# Altium schematic symbol library R.SchLib: 54 symbols
Pins are listed as number, name and electrical type; pins without a type are passive.

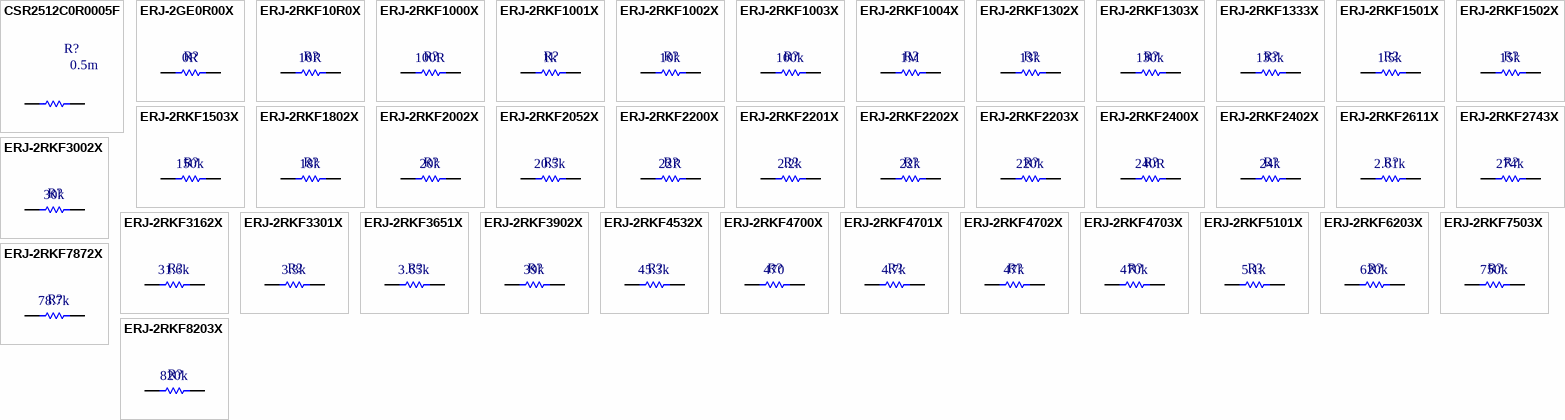
[diagram p0: symbols CSR2512C0R0005F to ERJ-2RKF8203X]

## CSR2512C0R0005F
designator R?, comment 0.5m
RES SMD 0.0005 OHM 1% 3W 2512; Manufacturer: Riedon; Manufacturer Part Number: CSR2512C0R0005F; Temperature Coefficient: ±100ppm/°C; Supplier 1: Digi-Key; Supplier Part Number 1: 696-1183-2-ND; RoHS: RoHS Compliant; Category: Resistors; Stock: 2000; Pricing 1: 2000=0.19817, 6000=0.1937, 10000=0.187, 50000=0.18148 (USD); Packaging: Tape & Reel (TR); Part Status: Active; Tolerance: ±1%; Power (Watts): 3W; Composition: Metal Element; Features: Current Sense; Operating Temperature: -55°C ~ 170°C; Package / Case: 2512 (6432 Metric); Supplier Device Package: 2512; Size / Dimension: 0.250" L x 0.118" W (6.35mm x 3.00mm); Height - Seated (Max): 0.057" (1.45mm); Failure Rate: -; ComponentLink1URL: http://riedon.com/media/pdf/CSR.pdf; ComponentLink1Description: http://riedon.com/media/pdf/CSR.pdf; Supplier 2: Digi-Key; Supplier Part Number 2: 696-1183-1-ND; Pricing 2: 1=0.69, 10=0.574, 25=0.4916, 50=0.4426, 100=0.3852, 250=0.3442, 500=0.27864, 1000=0.22536 (USD)
footprint RES 2512 (VISHAY SHUNT RESISTOR)
pins: 1, 2

## ERJ-2GE0R00X
designator R?  value 0R  (hidden comment: *)
RES 0402 0R
footprint RES 0402 (Chip Capacitor; Body 1.0 x 0.5 mm (LxW typ))
pins: 1, 2

## ERJ-2RKF10R0X
designator R?  value 10R  (hidden comment: *)
RES 0402 10R 1%
footprint RES 0402 (Chip Capacitor; Body 1.0 x 0.5 mm (LxW typ))
pins: 1, 2

## ERJ-2RKF1000X
designator R?  value 100R  (hidden comment: *)
RES 0402 100R 1%
footprint RES 0402 (Body 1.0 x 0.5 mm (LxW typ))
pins: 1, 2

## ERJ-2RKF1001X
designator R?  value 1k  (hidden comment: *)
RES 0402 1k 1%
footprint RES 0402 (Chip Capacitor; Body 1.0 x 0.5 mm (LxW typ))
pins: 1, 2

## ERJ-2RKF1002X
designator R?  value 10k  (hidden comment: *)
RES 0402 10k 1%
footprint RES 0402 (Chip Capacitor; Body 1.0 x 0.5 mm (LxW typ))
pins: 1, 2

## ERJ-2RKF1003X
designator R?  value 100k  (hidden comment: *)
RES 0402 100k 1%
footprint RES 0402 (Chip Capacitor; Body 1.0 x 0.5 mm (LxW typ))
pins: 1, 2

## ERJ-2RKF1004X
designator R?  value 1M  (hidden comment: *)
RES 0402 1M 1%
footprint RES 0402 (Chip Capacitor; Body 1.0 x 0.5 mm (LxW typ))
pins: 1, 2

## ERJ-2RKF1302X
designator R?  value 13k  (hidden comment: *)
RES 0402 13k 1%
footprint RES 0402 (Chip Capacitor; Body 1.0 x 0.5 mm (LxW typ))
pins: 1, 2

## ERJ-2RKF1303X
designator R?  value 130k  (hidden comment: *)
RES 0402 130k 1%
footprint RES 0402 (Chip Capacitor; Body 1.0 x 0.5 mm (LxW typ))
pins: 1, 2

## ERJ-2RKF1333X
designator R?  value 133k  (hidden comment: *)
RES 0402 133k 1%
footprint RES 0402 (Chip Capacitor; Body 1.0 x 0.5 mm (LxW typ))
pins: 1, 2

## ERJ-2RKF1501X
designator R?  value 1.5k  (hidden comment: *)
RES 0402 1.5k 1%
footprint RES 0402 (Chip Capacitor; Body 1.0 x 0.5 mm (LxW typ))
pins: 1, 2

## ERJ-2RKF1502X
designator R?  value 15k  (hidden comment: *)
RES 0402 15k 1%
footprint RES 0402 (Chip Capacitor; Body 1.0 x 0.5 mm (LxW typ))
pins: 1, 2

## ERJ-2RKF1503X
designator R?  value 150k  (hidden comment: *)
RES 0402 150k 1%
footprint RES 0402 (Chip Capacitor; Body 1.0 x 0.5 mm (LxW typ))
pins: 1, 2

## ERJ-2RKF1802X
designator R?  value 18k  (hidden comment: *)
RES 0402 18k 1%
footprint RES 0402 (Chip Capacitor; Body 1.0 x 0.5 mm (LxW typ))
pins: 1, 2

## ERJ-2RKF2002X
designator R?  value 20k  (hidden comment: *)
RES 0402 20k 1%
footprint RES 0402 (Chip Capacitor; Body 1.0 x 0.5 mm (LxW typ))
pins: 1, 2

## ERJ-2RKF2052X
designator R?  value 20.5k  (hidden comment: *)
RES 0402 20.5k 1%
footprint RES 0402 (Chip Capacitor; Body 1.0 x 0.5 mm (LxW typ))
pins: 1, 2

## ERJ-2RKF2200X
designator R?  value 22R  (hidden comment: *)
RES 0402 22R 1%
footprint RES 0402 (Chip Capacitor; Body 1.0 x 0.5 mm (LxW typ))
pins: 1, 2

## ERJ-2RKF2201X
designator R?  value 2.2k  (hidden comment: *)
RES 0402 2.2k 1%
footprint RES 0402 (Chip Capacitor; Body 1.0 x 0.5 mm (LxW typ))
pins: 1, 2

## ERJ-2RKF2202X
designator R?  value 22k  (hidden comment: *)
RES 0402 22k 1%
footprint RES 0402 (Chip Capacitor; Body 1.0 x 0.5 mm (LxW typ))
pins: 1, 2

## ERJ-2RKF2203X
designator R?  value 220k  (hidden comment: *)
RES 0402 220k 1%
footprint RES 0402 (Chip Capacitor; Body 1.0 x 0.5 mm (LxW typ))
pins: 1, 2

## ERJ-2RKF2400X
designator R?  value 240R  (hidden comment: *)
RES 0402 240R 1%
footprint RES 0402 (Body 1.0 x 0.5 mm (LxW typ))
pins: 1, 2

## ERJ-2RKF2402X
designator R?  value 24k  (hidden comment: *)
RES 0402 24k 1%
footprint RES 0402 (Chip Capacitor; Body 1.0 x 0.5 mm (LxW typ))
pins: 1, 2

## ERJ-2RKF2611X
designator R?  value 2.61k  (hidden comment: *)
RES 0402 2.61k 1%
footprint RES 0402 (Chip Capacitor; Body 1.0 x 0.5 mm (LxW typ))
pins: 1, 2

## ERJ-2RKF2743X
designator R?  value 274k  (hidden comment: *)
RES 0402 274k 1%
footprint RES 0402 (Chip Capacitor; Body 1.0 x 0.5 mm (LxW typ))
pins: 1, 2

## ERJ-2RKF3002X
designator R?  value 30k  (hidden comment: *)
RES 0402 30k 1%
footprint RES 0402 (Chip Capacitor; Body 1.0 x 0.5 mm (LxW typ))
pins: 1, 2

## ERJ-2RKF3162X
designator R?  value 31.6k  (hidden comment: *)
RES 0402 31.6k 1%
footprint RES 0402 (Chip Capacitor; Body 1.0 x 0.5 mm (LxW typ))
pins: 1, 2

## ERJ-2RKF3301X
designator R?  value 3.3k  (hidden comment: *)
RES 0402 3.3k 1%
footprint RES 0402 (Chip Capacitor; Body 1.0 x 0.5 mm (LxW typ))
pins: 1, 2

## ERJ-2RKF3651X
designator R?  value 3.65k  (hidden comment: *)
RES 0402 3.65k 1%
footprint RES 0402 (Chip Capacitor; Body 1.0 x 0.5 mm (LxW typ))
pins: 1, 2

## ERJ-2RKF3902X
designator R?  value 39k  (hidden comment: *)
RES 0402 39k 1%
footprint RES 0402 (Chip Capacitor; Body 1.0 x 0.5 mm (LxW typ))
pins: 1, 2

## ERJ-2RKF4532X
designator R?  value 45.3k  (hidden comment: *)
RES 0402 45.3k 1%
footprint RES 0402 (Chip Capacitor; Body 1.0 x 0.5 mm (LxW typ))
pins: 1, 2

## ERJ-2RKF4700X
designator R?  value 470  (hidden comment: *)
RES 0402 470 1%
footprint RES 0402 (Chip Capacitor; Body 1.0 x 0.5 mm (LxW typ))
pins: 1, 2

## ERJ-2RKF4701X
designator R?  value 4.7k  (hidden comment: *)
RES 0402 4.7k 1%
footprint RES 0402 (Chip Capacitor; Body 1.0 x 0.5 mm (LxW typ))
pins: 1, 2

## ERJ-2RKF4702X
designator R?  value 47k  (hidden comment: *)
RES 0402 47k 1%
footprint RES 0402 (Chip Capacitor; Body 1.0 x 0.5 mm (LxW typ))
pins: 1, 2

## ERJ-2RKF4703X
designator R?  value 470k  (hidden comment: *)
RES 0402 470k 1%
footprint RES 0402 (Chip Capacitor; Body 1.0 x 0.5 mm (LxW typ))
pins: 1, 2

## ERJ-2RKF5101X
designator R?  value 5.1k  (hidden comment: *)
RES 0402 5.1k 1%
footprint RES 0402 (Chip Capacitor; Body 1.0 x 0.5 mm (LxW typ))
pins: 1, 2

## ERJ-2RKF6203X
designator R?  value 620k  (hidden comment: *)
RES 0402 620K 1%
footprint RES 0402 (Chip Capacitor; Body 1.0 x 0.5 mm (LxW typ))
pins: 1, 2

## ERJ-2RKF7503X
designator R?  value 750k  (hidden comment: *)
RES 0402 750K 1%
footprint RES 0402 (Chip Capacitor; Body 1.0 x 0.5 mm (LxW typ))
pins: 1, 2

## ERJ-2RKF7872X
designator R?  value 78.7k  (hidden comment: *)
RES 0402 78.7k 1%
footprint RES 0402 (Chip Capacitor; Body 1.0 x 0.5 mm (LxW typ))
pins: 1, 2

## ERJ-2RKF8203X
designator R?  value 820k  (hidden comment: *)
RES 0402 820k 1%
footprint RES 0402 (Chip Capacitor; Body 1.0 x 0.5 mm (LxW typ))
pins: 1, 2

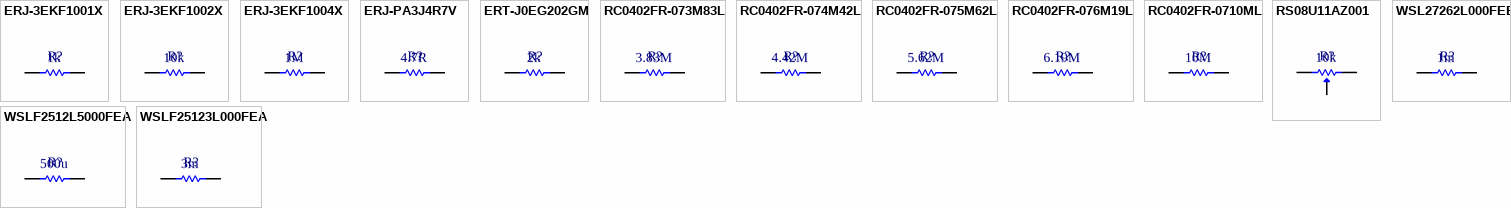
[diagram p1: symbols ERJ-3EKF1001X to WSLF25123L000FEA]

## ERJ-3EKF1001X
designator R?  value 1k  (hidden comment: *)
RES 0603 1k 1%
footprint RES 0603 (Body 1.6 x 0.8 mm (LxW typ))
pins: 1, 2

## ERJ-3EKF1002X
designator R?  value 10k  (hidden comment: *)
RES 0603 10k 1%
footprint RES 0603 (Body 1.6 x 0.8 mm (LxW typ))
pins: 1, 2

## ERJ-3EKF1004X
designator R?  value 1M  (hidden comment: *)
RES 0603 1M 1%
footprint RES 0603 (Body 1.6 x 0.8 mm (LxW typ))
pins: 1, 2

## ERJ-PA3J4R7V
designator R?  value 4.7R  (hidden comment: *)
RES 0603 4.7R 5%
footprint RES 0603 (Body 1.6 x 0.8 mm (LxW typ))
pins: 1, 2

## ERT-J0EG202GM
designator R?  value 2k  (hidden comment: *)
NTC THERMISTOR 0402 2k 2%
footprint RES 0402 (Chip Capacitor; Body 1.0 x 0.5 mm (LxW typ))
pins: 1, 2

## RC0402FR-073M83L
designator R?  value 3.83M  (hidden comment: *)
RES 0402 3.83M 1%
footprint RES 0402 (Chip Capacitor; Body 1.0 x 0.5 mm (LxW typ))
pins: 1, 2

## RC0402FR-074M42L
designator R?  value 4.42M  (hidden comment: *)
RES 0402 4.42M 1%
footprint RES 0402 (Chip Capacitor; Body 1.0 x 0.5 mm (LxW typ))
pins: 1, 2

## RC0402FR-075M62L
designator R?  value 5.62M  (hidden comment: *)
RES 0402 5.62M 1%
footprint RES 0402 (Chip Capacitor; Body 1.0 x 0.5 mm (LxW typ))
pins: 1, 2

## RC0402FR-076M19L
designator R?  value 6.19M  (hidden comment: *)
RES 0402 6.19M 1%
footprint RES 0402 (Chip Capacitor; Body 1.0 x 0.5 mm (LxW typ))
pins: 1, 2

## RC0402FR-0710ML
designator R?  value 10M  (hidden comment: *)
RES 0402 10M 1%
footprint RES 0402 (Chip Capacitor; Body 1.0 x 0.5 mm (LxW typ))
pins: 1, 2

## RS08U11AZ001
designator R?  value 10k  (hidden comment: *)
ALPS TRIM POTENTIOMETER 10k 1%
footprint RS08U11AZ001 (Slide Potentiometers Vertical type, Travel 8mm, Lever length 1.3mm)
pins: 1, 2, 3

## WSL27262L000FEB
designator R?  value 1m  (hidden comment: *)
RES 2726 1mOhm 1%
footprint WSL2726 (Body 7.24 x 3.81 mm (LxW typ))
pins: 1, 2

## WSLF2512L5000FEA
designator R?  value 500u  (hidden comment: *)
RES 2512 0.5mOhm 1%
footprint RES 2512 (VISHAY SHUNT RESISTOR)
pins: 1, 2

## WSLF25123L000FEA
designator R?  value 3m  (hidden comment: *)
RES 2512 3mOhm 1%
footprint RES 2512 (VISHAY SHUNT RESISTOR)
pins: 1, 2